# EAGLE library part TCKE712BNL (library FaBo-eFuse)
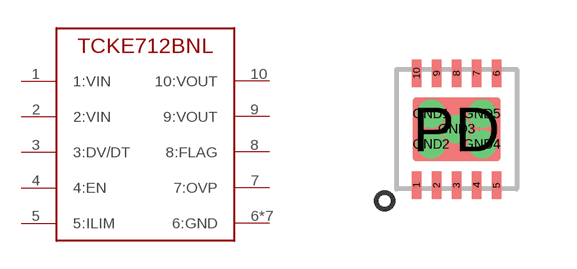
[diagram p0: symbol with the pads of WSON10; footprint WSON10]

Designator prefix -

## TCKE712BNL  [WSON10]
1  1:VIN  pwr
2  2:VIN  pwr
3  3:DV/DT  in
4  4:EN  in
5  5:ILIM  in
6  6:GND  pwr
7  7:OVP  in
8  8:FLAG  oc
9  9:VOUT  sup
10  10:VOUT  sup
GND1  6:GND  pwr
GND2  6:GND  pwr
GND3  6:GND  pwr
GND4  6:GND  pwr
GND5  6:GND  pwr
PD  6:GND  pwr

## Footprint WSON10 (pad centres in mm)
smd 0.26 x 0.7: 1 -1,-1.4; 2 -0.5,-1.4; 3 0,-1.4; 4 0.5,-1.4; 5 1,-1.4; 6 1,1.4; 7 0.5,1.4; 8 0,1.4; 9 -0.5,1.4; 10 -1,1.4
drill 0.2 pad 0.61: GND1 -0.635,0.381; GND2 -0.635,-0.381; GND3 0,0; GND4 0.635,-0.381; GND5 0.635,0.381
smd 2.2 x 1.6: PD 0,0